# Altium footprint library USB_2.0.PcbLib: 1 footprints
Each footprint in its own frame and in the unit in brackets; x right, y up, seen from the top. Pads: shape width x height; smd on the part's side, far side on the other; paste and mask are expansions set on the pad; w line width, h text height; cw(c..) or ccw(c..) is an arc to the next point about the centre after c.
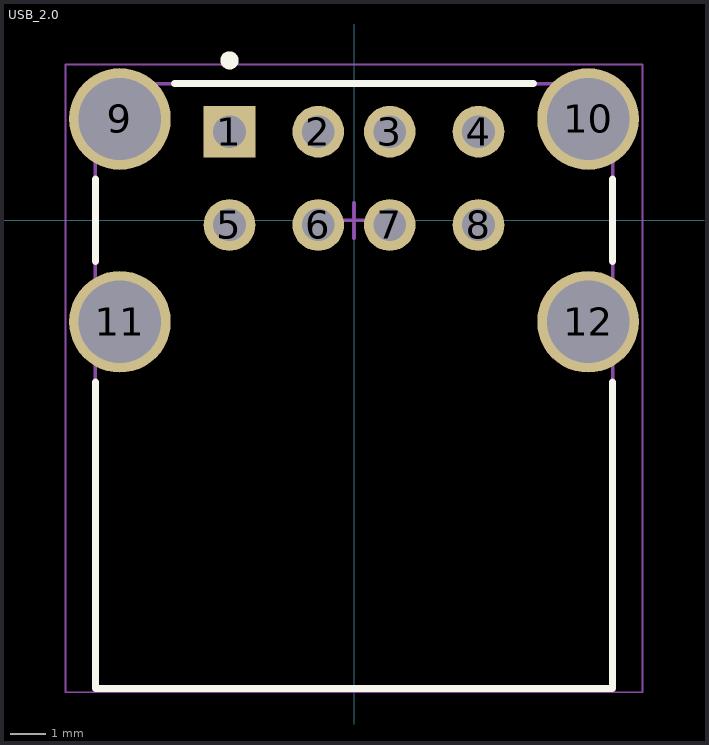
[diagram p0: the footprint, top view; thin cyan lines are the x and y axes]

## USB_2.0 [mil] "USB, 8-Leads, Body 16.967x14.503mm"
height 610
pads (12):
  rect 57.09x57.09 hole 36: 1(-137.5,98)
  round 57.09 hole 36: 2(-39.5,98) 3(39.5,98) 4(137.5,98) 5(-137.5,-5) 6(-39.5,-5) 7(39.5,-5) 8(137.5,-5)
  round 112.2 hole 91: 9(-258.5,112) 10(258.5,112) 11(-258.5,-112) 12(258.5,-112)
Top Overlay:
  circle w10: c-137.5,176.74 r5
  lines w7.87: -285.5,-178.57 -285.5,-517 285.5,-517 285.5,-178.57 ; -285.5,-45.43 -285.5,45.43 ; -198.15,151 198.15,151 ; 285.5,-45.43 285.5,45.43
Mechanical 13:
  lines w3.94: -285.5,-517 285.5,-517 285.5,151 -285.5,151 -285.5,-517
Mechanical 15:
  lines w1.97: -318.54,-520.94 -318.54,172.05 318.54,172.05 318.54,-520.94 -318.54,-520.94
  lines w3.94: -19.68,0 19.68,0 ; 0,-19.68 0,19.68
3D body: height 610, standoff 0, extent -285.5,-517 285.5,151